# EAGLE library part SQT-109-A-F-D (library con_samtec2)
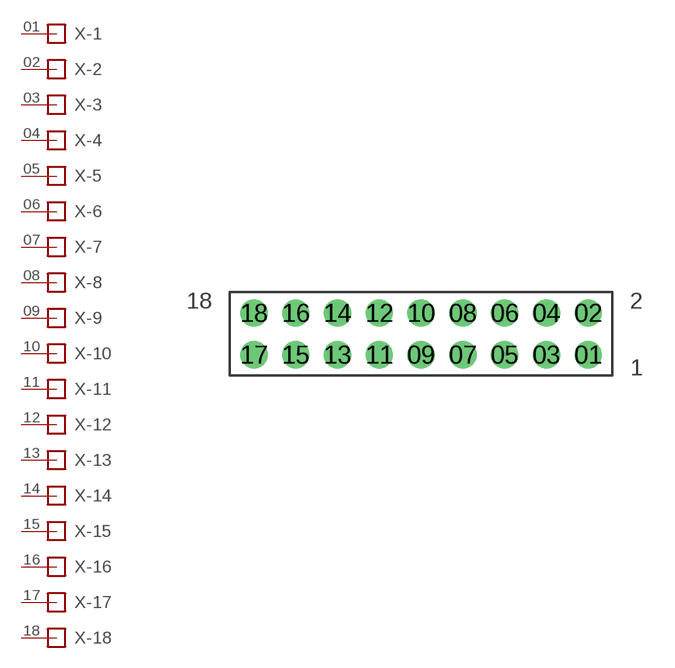
[diagram p5: symbol with the pads of SQT_09X2; footprint SQT_09X2]

Designator prefix X; gates -1=PIN-2 -2=PIN-2 -3=PIN-2 -4=PIN-2 -5=PIN-2 -6=PIN-2 -7=PIN-2 -8=PIN-2 -9=PIN-2 -10=PIN-2 -11=PIN-2 -12=PIN-2 -13=PIN-2 -14=PIN-2 -15=PIN-2 -16=PIN-2 -17=PIN-2 -18=PIN-2

## SQT-109-A-F-D  [SQT_09X2]
01  -1:PIN
02  -2:PIN
03  -3:PIN
04  -4:PIN
05  -5:PIN
06  -6:PIN
07  -7:PIN
08  -8:PIN
09  -9:PIN
10  -10:PIN
11  -11:PIN
12  -12:PIN
13  -13:PIN
14  -14:PIN
15  -15:PIN
16  -16:PIN
17  -17:PIN
18  -18:PIN

## Footprint SQT_09X2 (pad centres in mm)
drill 0.8: 01 8,-1; 02 8,1; 03 6,-1; 04 6,1; 05 4,-1; 06 4,1; 07 2,-1; 08 2,1; 09 0,-1; 10 0,1; 11 -2,-1; 12 -2,1; 13 -4,-1; 14 -4,1; 15 -6,-1; 16 -6,1; 17 -8,-1; 18 -8,1